# Altium footprint library TPB4056A20-DFGR.PcbLib: 3 footprints
Each footprint in its own frame and in the unit in brackets; x right, y up, seen from the top. Pads: shape width x height; smd on the part's side, far side on the other; paste and mask are expansions set on the pad; w line width, h text height; cw(c..) or ccw(c..) is an arc to the next point about the centre after c.
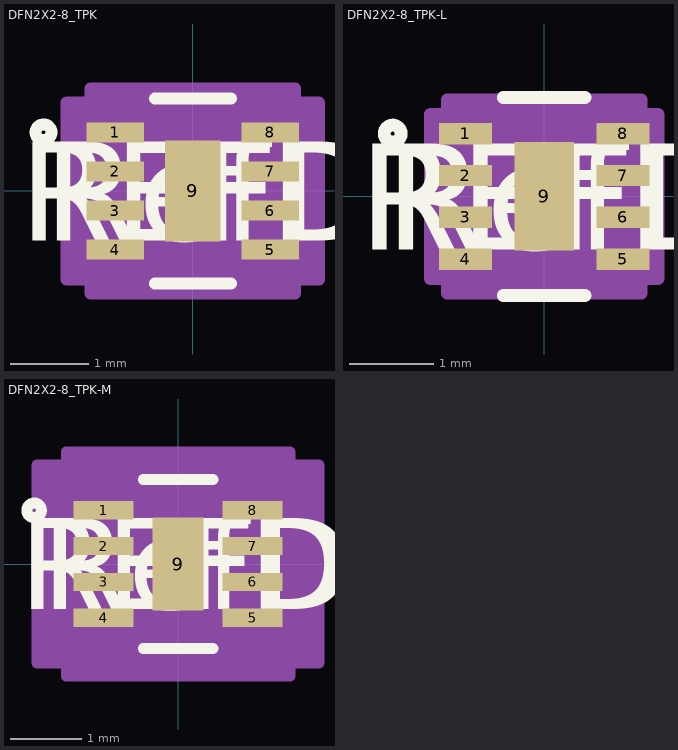
[diagram p0: the footprints below, top view; thin cyan lines are the x and y axes]

## DFN2X2-8_TPK [mil]
pads (9):
  rect 29x10 smd paste+0 mask+0: 1(-39,29.53) 2(-39,9.84) 3(-39,-9.84) 4(-39,-29.53) 5(39,-29.53) 6(39,-9.84) 7(39,9.84) 8(39,29.53)
  rect 28x51 smd paste+0 mask+0: 9(0,0)
Top Overlay:
  circle w6: c-75.19,29.53 r4
  lines w6: -19.18,-46.5 19.18,-46.5 ; -19.18,46.5 19.18,46.5
  text "RefDes" at -75,-25 h50
  text "REFDES" at -87.5,-25 h50
Mechanical 13:
  circle w0: c-24.5,29.53 r3
  lines w0: -12,41.5 ccw(c0,41.5) 12,41.5
  lines w1: -41.5,-41.5 41.5,-41.5 41.5,41.5 -41.5,41.5 -41.5,-41.5
  text "RefDes2" at -87.5,-25 h50
Mechanical 15:
  region: -51.5,-44.53 -63.5,-44.53 -63.5,44.53 -51.5,44.53 -51.5,51.5 51.5,51.5 51.5,44.53 63.5,44.53 63.5,-44.53 51.5,-44.53 51.5,-51.5 -51.5,-51.5
  lines w6: -63.5,-44.53 -63.5,44.53 -51.5,44.53 -51.5,51.5 51.5,51.5 51.5,44.53 63.5,44.53 63.5,-44.53 51.5,-44.53 51.5,-51.5 -51.5,-51.5 -51.5,-44.53 -63.5,-44.53
3D body "DFN2X2-8_TPK.step": height 32.09, standoff 0, extent -41.5,-41.5 41.5,41.5

## DFN2X2-8_TPK-L [mil]
pads (9):
  rect 25x10 smd paste+0 mask+0: 1(-37,29.53) 2(-37,9.84) 3(-37,-9.84) 4(-37,-29.53) 5(37,-29.53) 6(37,-9.84) 7(37,9.84) 8(37,29.53)
  rect 28x51 smd paste+0 mask+0: 9(0,0)
Top Overlay:
  circle w6: c-71.19,29.53 r4
  lines w6: -19.18,-46.5 19.18,-46.5 ; -19.18,46.5 19.18,46.5
  text "RefDes" at -75,-25 h50
  text "REFDES" at -87.5,-25 h50
Mechanical 13:
  circle w0: c-24.5,29.53 r3
  lines w0: -12,41.5 ccw(c0,41.5) 12,41.5
  lines w1: -41.5,-41.5 41.5,-41.5 41.5,41.5 -41.5,41.5 -41.5,-41.5
  text "RefDes2" at -87.5,-25 h50
Mechanical 15:
  region: -45.5,-38.53 -53.5,-38.53 -53.5,38.53 -45.5,38.53 -45.5,45.5 45.5,45.5 45.5,38.53 53.5,38.53 53.5,-38.53 45.5,-38.53 45.5,-45.5 -45.5,-45.5
  lines w6: -53.5,-38.53 -53.5,38.53 -45.5,38.53 -45.5,45.5 45.5,45.5 45.5,38.53 53.5,38.53 53.5,-38.53 45.5,-38.53 45.5,-45.5 -45.5,-45.5 -45.5,-38.53 -53.5,-38.53
3D body "DFN2X2-8_TPK.step": height 32.09, standoff 0, extent -41.5,-41.5 41.5,41.5

## DFN2X2-8_TPK-M [mil]
pads (9):
  rect 33x10 smd paste+0 mask+0: 1(-41,29.53) 2(-41,9.84) 3(-41,-9.84) 4(-41,-29.53) 5(41,-29.53) 6(41,-9.84) 7(41,9.84) 8(41,29.53)
  rect 28x51 smd paste+0 mask+0: 9(0,0)
Top Overlay:
  circle w6: c-79.19,29.53 r4
  lines w6: -19.18,-46.5 19.18,-46.5 ; -19.18,46.5 19.18,46.5
  text "RefDes" at -75,-25 h50
  text "REFDES" at -87.5,-25 h50
Mechanical 13:
  circle w0: c-24.5,29.53 r3
  lines w0: -12,41.5 ccw(c0,41.5) 12,41.5
  lines w1: -41.5,-41.5 41.5,-41.5 41.5,41.5 -41.5,41.5 -41.5,-41.5
  text "RefDes2" at -87.5,-25 h50
Mechanical 15:
  region: -61.5,-54.53 -77.5,-54.53 -77.5,54.53 -61.5,54.53 -61.5,61.5 61.5,61.5 61.5,54.53 77.5,54.53 77.5,-54.53 61.5,-54.53 61.5,-61.5 -61.5,-61.5
  lines w6: -77.5,-54.53 -77.5,54.53 -61.5,54.53 -61.5,61.5 61.5,61.5 61.5,54.53 77.5,54.53 77.5,-54.53 61.5,-54.53 61.5,-61.5 -61.5,-61.5 -61.5,-54.53 -77.5,-54.53
3D body "DFN2X2-8_TPK.step": height 32.09, standoff 0, extent -41.5,-41.5 41.5,41.5